# Altium integrated library C0603C104K9PACTU.IntLib: 1 symbol
Pins are listed as number, name and electrical type; pins without a type are passive.

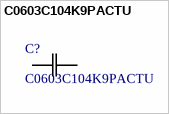
[diagram p0: symbol C0603C104K9PACTU]

## C0603C104K9PACTU
designator C?
SMD Comm X5R, Ceramic, 0.1 uF, 10%, 6.3 VDC, X5R, SMD, MLCC, Temperature Stable, Class II, 0603; Manufacturer_Name: Kemet; Copyright: Copyright (C) 2025 Ultra Librarian. All rights reserved.; Manufacturer_Part_Number: C0603C104K9PACTU
footprint CAPC17595_90N_KEM
pins: 1, 2